# Altium schematic symbol library lab2.SchLib: 20 symbols
Pins are listed as number, name and electrical type; pins without a type are passive.

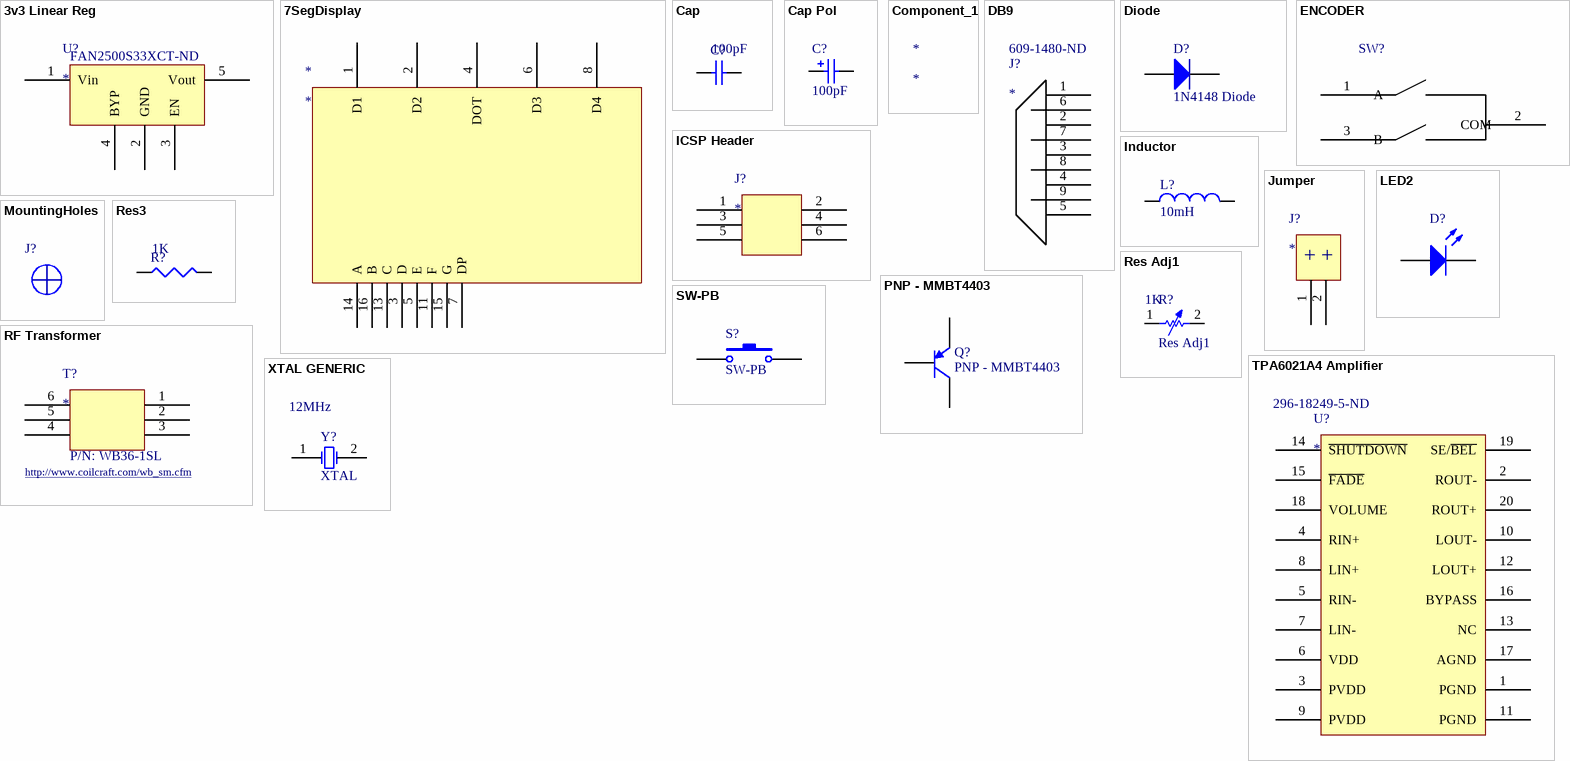
[diagram p0: symbols 3v3 Linear Reg to XTAL GENERIC]

## 3v3 Linear Reg
designator U?  Supplier Part Number 1: FAN2500S33XCT-ND
Manufacturer: Fairchild Semiconductor; Manufacturer Part Number: FAN2500S33X; Dropout Voltage: 140; Max Input Voltage: 6.5; Min Input Voltage: 2.7; Output Voltage: 3.3; Output Current: 100; Outputs: 1; Supplier 1: Digikey; Stock 1: 32735; Pricing 1: 1=0.63, 10=0.557, 100=0.4259, 500=0.3374, 1000=0.2703 (USD); Mount: Surface Mount; Case/Package: SOT-23-5; Pins: 5; Min Operating Temperature: -40; Max Operating Temperature: 125; Package Quantity: 3000; Packaging: Tape and Reel; Max Ouput Current: 100; Nominal Output Voltage: 3.3; Radiation Hardening: No; REACH SVHC: No SVHC; ComponentLink1URL: https://datasheet.ciiva.com/4886/fan2500-192391-4886672.pdf; ComponentLink1Description: https://datasheet.ciiva.com/4886/fan2500-192391-4886672.pdf; ComponentLink2URL: https://datasheet.ciiva.com/8239/fan2501-8239552.pdf; ComponentLink2Description: https://datasheet.ciiva.com/8239/fan2501-8239552.pdf; ComponentLink3URL: https://datasheet.ciiva.com/16747/fan2500-16747543.pdf; ComponentLink3Description: https://datasheet.ciiva.com/16747/fan2500-16747543.pdf; ComponentLink4URL: https://datasheet.ciiva.com/46426/1727616-46426263.pdf; ComponentLink4Description: https://datasheet.ciiva.com/46426/1727616-46426263.pdf; ComponentLink5URL: https://datasheet.ciiva.com/8241/fan2501-8241034.pdf; ComponentLink5Description: https://datasheet.ciiva.com/8241/fan2501-8241034.pdf; ComponentLink6URL: https://datasheet.ciiva.com/2039/fan2500-2039339.pdf; ComponentLink6Description: https://datasheet.ciiva.com/2039/fan2500-2039339.pdf; ComponentLink7URL: https://datasheet.ciiva.com/48696/001252307-da-01-en-ic-reg-ldo-3-3v-fan2500s33x-sot-23-5-fsc-48696763.pdf; ComponentLink7Description: https://datasheet.ciiva.com/48696/001252307-da-01-en-ic-reg-ldo-3-3v-fan2500s33x-sot-23-5-fsc-48696763.pdf; ComponentLink8URL: https://datasheet.ciiva.com/2039/fan2500-2039340.pdf; ComponentLink8Description: https://datasheet.ciiva.com/2039/fan2500-2039340.pdf
footprint SOT95P245X110-5N (SOT23, 5-Leads, Body 2.90x2.45mm, Pitch 0.95mm, IPC Medium Density)
pins: 1 Vin, 2 GND, 3 EN, 4 BYP, 5 Vout

## 7SegDisplay
designator *
footprint LTC-4627JS
pins: 1 D1, 2 D2, 3 D, 4 DOT, 5 E, 6 D3, 7 DP, 8 D4, 11 F, 13 C, 14 A, 15 G, 16 B

## Cap
designator C?, comment value 100pF  (hidden comment: 0805 style, by default)
Capacitor; Published: 8-Jun-2000; LatestRevisionDate: 17-Jul-2002; LatestRevisionNote: Re-released for DXP Platform.; PackageReference: RAD-0.3; Publisher: Altium Limited; PackageDescription: Radial Cap, Thru-Hole; 2 Leads; 0.3 in Pin Spacing
simulation model CAP (Capacitor)
signal-integrity model Cap
footprint C0805 (Chip Capacitor, Body 2.0x1.3mm, IPC High Density)
pins: 1, 2

## Cap Pol
designator C?, comment 100pF
Polarized Capacitor (Radial); Value: 100pF
pins: 1, 2
1 alternate drawing of the same symbol

## Component_1
designator *

## DB9
designator J?  Supplier Part Number 1: 609-1480-ND
Manufacturer: Amphenol / FCI; Manufacturer Part Number: D09P33E4GV00LF; Connector Style: D-Sub; Connector Type: Plug, Male Pins; Number of Positions: 9; Flange Feature: Mating Side, Female Screwlock (4-40); Voltage Rating: 300V; Current Rating: 5A; Supplier 1: Digikey; Stock 1: 5536; Pricing 1: 1=2.3, 10=2.086, 25=1.958, 50=1.8728, 100=1.7877, 250=1.6175, 500=1.4898, 1000=1.277, 2500=1.1918 (USD); Category: Connectors, Interconnects; Family: D-Sub Connectors; Series: Delta D; Packaging: Tray; Number of Rows: 2; Shell Size, Connector Layout: 1 (DE, E); Contact Type: Signal; Mounting Type: Through Hole, Right Angle; Termination: Solder; Features: Board Lock, Grounding Indents; Shell Material, Finish: Steel, Tin Plated; Contact Finish: Gold; Contact Finish Thickness: Flash; Ingress Protection: -; Operating Temperature: -55°C ~ 125°C; Housing Material: Polybutylene Terephthalate (PBT); Color: Black; ComponentLink1URL: https://datasheet.ciiva.com/16915/70236919-16915382.pdf; ComponentLink1Description: https://datasheet.ciiva.com/16915/70236919-16915382.pdf; ComponentLink2URL: https://datasheet.ciiva.com/15177/getdatasheetpartid-123290-15177610.pdf; ComponentLink2Description: https://datasheet.ciiva.com/15177/getdatasheetpartid-123290-15177610.pdf; ComponentLink3URL: https://datasheet.ciiva.com/10376/c01-8646-0151-10376667.pdf; ComponentLink3Description: https://datasheet.ciiva.com/10376/c01-8646-0151-10376667.pdf; ComponentLink4URL: https://datasheet.ciiva.com/652/c01-8646-0151-652476.pdf; ComponentLink4Description: https://datasheet.ciiva.com/652/c01-8646-0151-652476.pdf; ComponentLink5URL: https://datasheet.ciiva.com/16663/c01-8646-0151-16663004.pdf; ComponentLink5Description: https://datasheet.ciiva.com/16663/c01-8646-0151-16663004.pdf
footprint DSUB CONNECTOR
pins: 1, 2, 3, 4, 5, 6, 7, 8, 9

## Diode
designator D?, comment 1N4148 Diode
Diode
footprint S01575 Diode (Chip Resistor, Body 1.6x0.8mm, IPC High Density)
pins: 1 K, 3 A

## ENCODER
designator SW?  (value not drawn)
footprint ENCODER
pins: 1 A, 2 COM, 3 B

## ICSP Header
designator J?
footprint ICSP Header
pins: 1, 2, 3, 4, 5, 6

## Inductor
designator L?, comment 10mH
Inductor; Value: 10mH
pins: 1, 2

## Jumper
designator J?
footprint Jumper
pins: 1, 2
text: + +

## LED2
designator D?
Typical RED, GREEN, YELLOW, AMBER GaAs LED; Published: 8-Jun-2000; LatestRevisionDate: 17-Jul-2002; LatestRevisionNote: Re-released for DXP Platform.; PackageVersion: Feb-2002; PackageReference: 3.2X1.6X1.1; Publisher: Altium Limited; PackageDescription: SM LED; 2 Flat Leads
footprint basic_led
pins: 1 A, 2 K

## MountingHoles
designator J?  (value not drawn)
footprint Mounting Hole - Single

## PNP - MMBT4403
designator Q?
PNP Bipolar Transistor
footprint TO-92A - BJT (TO, Flat Index; 3 In-Line, Axial Leads; Body Dia. 4.5mm; Leads 0.51 x 0.48 mm (max))
pins: 1 C, 2 B, 3 E

## Res3
designator R?, comment 1K
Resistor; Published: 8-Jun-2000; LatestRevisionDate: 29-May-2009; LatestRevisionNote: IPC-7351 Footprint Added.; PackageReference: J1-0603; Publisher: Altium Limited; PackageDescription: Chip Resistor; Value: 1K
footprint J1-0603 (Chip Resistor, Body 1.6x0.8mm, IPC High Density)
pins: 1, 2

## Res Adj1
designator R?  value 1K
Variable Resistor
footprint LOG POT
pins: 1, 2

## RF Transformer
designator T?
footprint WB Series RF Transformers
pins: 1, 2, 3, 4, 5, 6
text: P/N: WB36-1SL; http://www.coilcraft.com/wb_sm.cfm

## SW-PB
designator S?
Switch
footprint SW-PB
pins: 1, 2

## TPA6021A4 Amplifier
designator U?  Supplier Part Number 1: 296-18249-5-ND
Audio Amplifier; Manufacturer: Texas Instruments (TI); Manufacturer Part Number: TPA6021A4N; Description: IC, AMP AUDIO PWR 2W STER 20DIP; Audio - Load Impedance: 4 Ohms; Maximum Power Dissipation: 1800 mW; Class: Class-AB; Output Power: 2 W; THD plus Noise: 0.8 %; Operating Supply Voltage: 4 V to 5.5 V; Brand: Texas Instruments; Development Kit: TPA6021A4EVM; Input Signal Type: Differential; Number of Channels: 2 Channel; Output Signal Type: Differential, Single; Output Type: 2-Channel Stereo; Supply Current: 7.5 mA; Supply Type: Single; Supply Voltage - Max: 5.5 V; Supply Voltage - Min: 4 V; Unit Weight: 0.042297 oz; Supplier 1: Digikey; Stock 1: 2778; Pricing 1: 1=3.03, 10=2.723, 100=2.2308, 500=1.899, 1000=1.6016, 2500=1.5215, 5000=1.4643, 10000=1.43 (USD); Product Category: Audio Amplifiers; RoHS: Details; Audio Load Resistance: 4 Ohms; Product: Audio Amplifiers; Type: 2-Channel Stereo; Maximum Operating Temperature: + 85 C; Mounting Style: Through Hole; Package / Case: PDIP-20; Packaging: Tube; Minimum Operating Temperature: - 40 C; Pd - Power Dissipation: 1800 mW; Series: TPA6021A4; Factory Pack Quantity: 20; ComponentLink1URL: https://datasheet.ciiva.com/2968/slos465-2968180.pdf; ComponentLink1Description: https://datasheet.ciiva.com/2968/slos465-2968180.pdf; ComponentLink2URL: https://datasheet.ciiva.com/15131/getdatasheetpartid-327360-15131911.pdf; ComponentLink2Description: https://datasheet.ciiva.com/15131/getdatasheetpartid-327360-15131911.pdf; ComponentLink3URL: https://datasheet.ciiva.com/48711/001011782-da-01-en-ic-amp-audio-pwr-tpa6021a4n-pdip-20-tid-48711612.pdf; ComponentLink3Description: https://datasheet.ciiva.com/48711/001011782-da-01-en-ic-amp-audio-pwr-tpa6021a4n-pdip-20-tid-48711612.pdf
footprint DIP20
pins: 1 PGND, 2 ROUT-, 3 PVDD, 4 RIN+, 5 RIN-, 6 VDD, 7 LIN-, 8 LIN+, 9 PVDD, 10 LOUT-, 11 PGND, 12 LOUT+, 13 NC, 14 ~{SHUTDOWN}, 15 ~{FADE}, 16 BYPASS, 17 AGND, 18 VOLUME, 19 SE/~{BEL}, 20 ROUT+

## XTAL GENERIC
designator Y?, comment XTAL  Frequency: 12MHz
Crystal Oscillator
footprint XTAL_PDB
pins: 1 OSC1, 2 OSC2